# Altium footprint library songshuai.PcbLib: 62 footprints (part 1 of 4)
Each footprint in its own frame and in the unit in brackets; x right, y up, seen from the top. Pads: shape width x height; smd on the part's side, far side on the other; paste and mask are expansions set on the pad; w line width, h text height; cw(c..) or ccw(c..) is an arc to the next point about the centre after c.
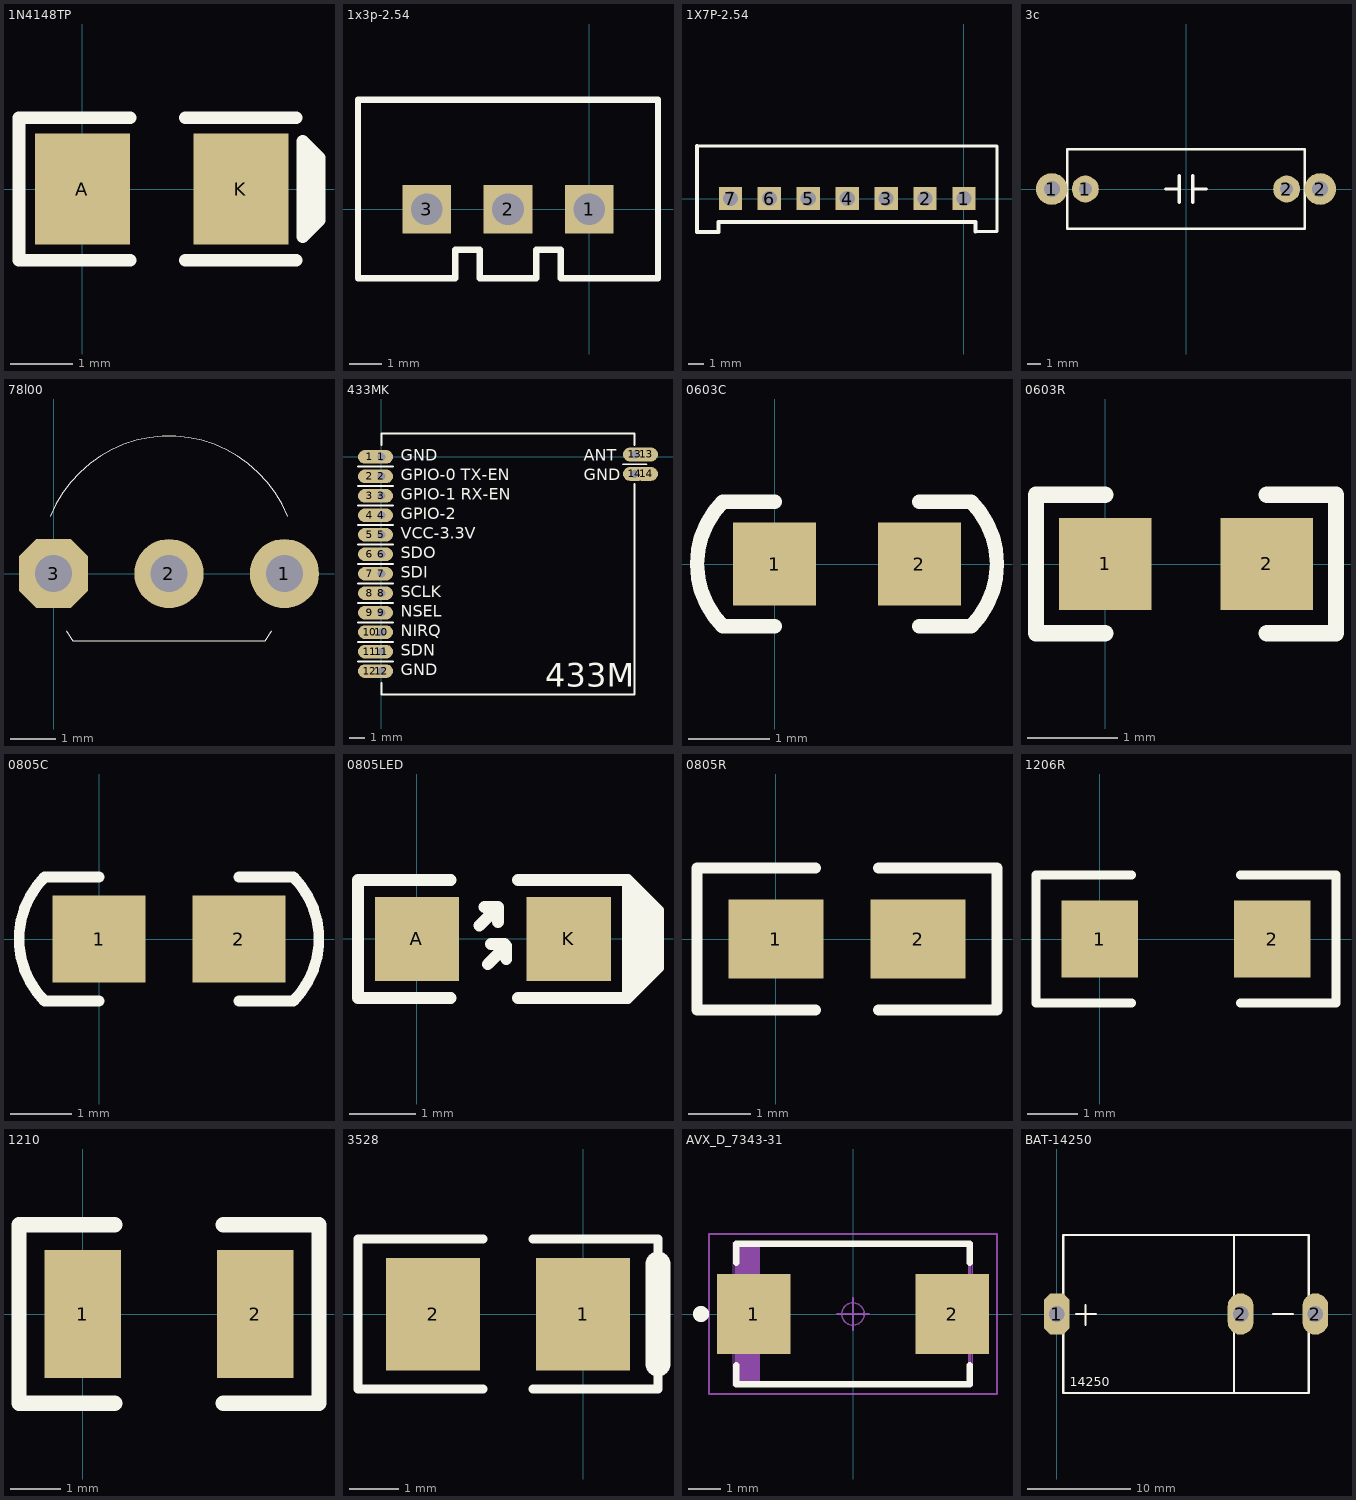
[diagram p0: the footprints below, top view; thin cyan lines are the x and y axes]

## 1N4148TP [mil]
pads (2):
  rect 60x70 smd: A(0,0) K(100,0)
Top Overlay:
  lines w8: 30,-45 -40,-45 -40,45 30,45 ; 65,-45 135,-45 ; 65,45 135,45 ; 144,-25 144,25 ; 139.08,-29.92 139.08,29.92 149.3,19.7 149.3,-19.7 139.08,-29.92

## 1x3p-2.54 [mil]
height 300
pads (3):
  rect 60x60 hole 39: 1(0,0) 2(-100,0) 3(-200,0)
Top Overlay:
  lines w8: -285,-85 -165,-85 -165,-50 -135,-50 -135,-85 -65,-85 -65,-50 -35,-50 -35,-85 85,-85 85,105 85,135 -285,135 -285,-85

## 1X7P-2.54 [mil]
height 300
pads (7):
  rect 60x60 hole 39: 1(0,0) 2(-100,0) 3(-200,0) 4(-300,0) 5(-400,0) 6(-500,0) 7(-600,0)
Top Overlay:
  lines w8: -686,135 85,135 85,105 85,-85 30,-85
  lines w10: -686,135 -686,-86 -631,-86 -631,-61 ; -631,-60 30,-60 30,-85

## 3c [mm]
pads (4):
  round 2.4 hole 1.2: 1(-10.16,0) 2(10.16,0)
  round 2.032 hole 0.991: 1(-7.62,0) 2(7.62,0)
Top Overlay:
  lines w0.2: -9,-3 -9,3 9,3 9,-3 -9,-3
  lines w0.254: -1.524,0 -0.508,0 ; -0.508,-1.016 -0.508,1.016 ; 0.508,-1.016 0.508,1.016 ; 0.508,0 1.524,0

## 78l00 [mil]
pads (3):
  round 60 hole 32: 1(200,0) 2(100,0)
  oct 60x60 hole 32: 3(0,0)
Top Overlay:
  lines w1: -2.76,49.85 cw(c100,8.33) 202.76,49.85 ; 10.92,-49.71 16.67,-58.33 183.33,-58.33 189.08,-49.71

## 433MK [mil]
height 200
pads (28):
  oval 60x35 smd: 1(-30,0) 2(-30,-50) 3(-30,-100) 4(-30,-150) 5(-30,-200) 6(-30,-250) 7(-30,-300) 8(-30,-350) 9(-30,-400) 10(-30,-450) 11(-30,-500) 12(-30,-550) 13(680,6.06) 14(680,-43.94)
  oval 60x35 hole 20: 1(0,0) 2(0,-50) 3(0,-100) 4(0,-150) 5(0,-200) 6(0,-250) 7(0,-300) 8(0,-350) 9(0,-400) 10(0,-450) 11(0,-500) 12(0,-550) 13(650,6.06) 14(650,-43.94)
Top Overlay:
  lines w4.72: 0,-610 650,-610 ; 0,60 650,60
  lines w5: -60,-525 0,-525 ; -60,-475 0,-475 ; -60,-425 0,-425 ; -60,-375 0,-375 ; -60,-325 0,-325 ; -60,-275 0,-275 ; -60,-225 0,-225 ; -60,-175 0,-175 ; -60,-125 0,-125 ; -60,-75 0,-75 ; -60,-25 0,-25 ; -30,-525 30,-525 ; -30,-475 30,-475 ; -30,-425 30,-425 ; -30,-375 30,-375 ; -30,-325 30,-325 ; -30,-275 30,-275 ; -30,-225 30,-225 ; -30,-175 30,-175 ; -30,-125 30,-125 ; -30,-75 30,-75 ; -30,-25 30,-25 ; 0,-610 0,-580 ; 0,30 0,60 ; 620,-18.94 680,-18.94 ; 650,-610 650,-70 ; 650,30 650,60
  text "SDN" at 50,-510 h30
  text "NIRQ" at 50,-460 h30
  text "NSEL" at 50,-410 h30
  text "SCLK" at 50,-360 h30
  text "SDI" at 50,-310 h30
  text "SDO" at 50,-260 h30
  text "VCC-3.3V" at 50,-210 h30
  text "ANT" at 520,-10 h30
  text "GND" at 520,-60 h30
  text "GND" at 50,-560 h30
  text "GND" at 50,-10 h30
  text "433M" at 420,-590 h60
  text "GPIO-0 TX-EN" at 50,-60 h30
  text "GPIO-1 RX-EN" at 50,-110 h30
  text "GPIO-2" at 50,-160 h30
Bottom Overlay:
  lines w5: -30,-525 30,-525 ; -30,-475 30,-475 ; -30,-425 30,-425 ; -30,-375 30,-375 ; -30,-325 30,-325 ; -30,-275 30,-275 ; -30,-225 30,-225 ; -30,-175 30,-175 ; -30,-125 30,-125 ; -30,-75 30,-75 ; -30,-25 30,-25 ; 620,-18.94 680,-18.94

## 0603C [mil]
pads (2):
  rect 40x40 smd: 1(0,0) 2(70,0)
Top Overlay:
  lines w7: 0,-30 -25,-30 cw(c5,0) -25,30 0,30 ; 70,-30 95,-30 ccw(c65,0) 95,30 70,30

## 0603R [mil]
height 200
pads (2):
  rect 40x40 smd: 1(0,0) 2(70,0)
Top Overlay:
  lines w7: 0,-30 -30,-30 -30,30 0,30 ; 70,-30 100,-30 100,30 70,30

## 0805C [mil]
height 118.11
pads (2):
  rect 60x56 smd: 1(0,0) 2(90,0)
Top Overlay:
  lines w7: 0,-40 -35,-40 cw(c5,0) -35,40 0,40 ; 90,-40 125,-40 ccw(c85,0) 125,40 90,40
3D body: height 28.74, standoff -1.18, extent 5.63,-26.58 84.37,25
3D body: height 25.79, standoff -25.79, extent 5.64,-11.17 84.37,18.75

## 0805LED [mil]
height 64.96
pads (2):
  rect 50x50 smd: A(0,0) K(90,0)
Top Overlay:
  lines w5: 137,-18 137,18
  lines w7: 20,-35 -35,-35 -35,35 20,35 ; 37,8 48,19 40,19 ; 42,-15 53,-4 53,-12 ; 44,-3 52,-3 ; 48,10 48,18 ; 60,-35 125,-35 ; 60,35 125,35 ; 125,-35 143,-17 143,17 125,35 ; 125,-35 125,35
  lines w10: 131,-26 131,27

## 0805R [mil]
height 118.11
pads (2):
  rect 60x50 smd: 1(0,0) 2(90,0)
Top Overlay:
  lines w7: 25,-45 -50,-45 -50,45 25,45 ; 65,-45 140,-45 140,45 65,45

## 1206R [mil]
height 118.11
pads (2):
  rect 60x60 smd: 1(0,0) 2(135,0)
Top Overlay:
  lines w7: 25,-50 -50,-50 -50,50 25,50 ; 110,-50 185,-50 185,50 110,50

## 1210 [mil]
pads (2):
  rect 60x100 smd: 1(0,0) 2(135,0)
Top Overlay:
  lines w12: 25,-70 -50,-70 -50,70 25,70 ; 110,-70 185,-70 185,70 110,70

## 3528 [mil]
height 64.96
pads (2):
  rect 75x90 smd: 1(0,0) 2(-120,0)
Top Overlay:
  lines w7: -80,-60 -180,-60 -180,60 -80,60 ; -40,-60 60,-60 60,60 -40,60
  lines w20: 60,-40 60,40

## AVX_D_7343-31 [mm]
pads (2):
  rect 2.3x2.5 smd: 1(-3.1,0) 2(3.1,0)
Top Overlay:
  circle w0.25: c-4.75,0 r0.125
  lines w0.2: -3.65,-1.6 -3.65,-2.2 3.65,-2.2 3.65,-1.6 ; -3.65,1.6 -3.65,2.2 3.65,2.2 3.65,1.6
Mechanical 1:
  lines w0.1: -3.55,-2.175 -3.55,2.175 ; -3.45,-2.175 -3.45,2.175 ; -3.35,-2.175 -3.35,2.175 ; -3.25,-2.175 -3.25,2.175 ; -3.15,-2.175 -3.15,2.175 ; -3.05,-2.175 -3.05,2.175 ; -2.95,-2.175 -2.95,2.175 ; -3.65,-2.175 -3.65,2.175 3.65,2.175 3.65,-2.175 -3.65,-2.175
  text "C1" at -0.537,-0.45 h0.75
Mechanical 16:
  circle w0.05: c0,0 r0.35
  lines w0.001: -3.75,-2.25 -3.75,2.25 3.75,2.25 3.75,-2.25 -3.75,-2.25
  lines w0.05: -0.5,0 0.5,0 ; 0,-0.5 0,0.5 ; -4.5,-2.5 -4.5,2.5 4.5,2.5 4.5,-2.5 -4.5,-2.5

## BAT-14250 [mm]
height 1.65
pads (3):
  oct 2.5x4 hole 1.5: 1(0,0)
  oval 2.5x4 hole 1.5: 2(17.78,0) 2(25,0)
Top Overlay:
  lines w0.203: 1.885,0 3.81,0 ; 2.794,-1.036 2.794,0.889 ; 17.145,-7.62 17.145,7.62 ; 20.935,0 22.86,0 ; 0.635,-7.62 0.635,7.62 24.365,7.62 24.365,-7.62 0.635,-7.62
  text "14250" at 1.27,-6.985 h0.89